# EAGLE library part CA723CA-PDIP (library Harris-Semi)
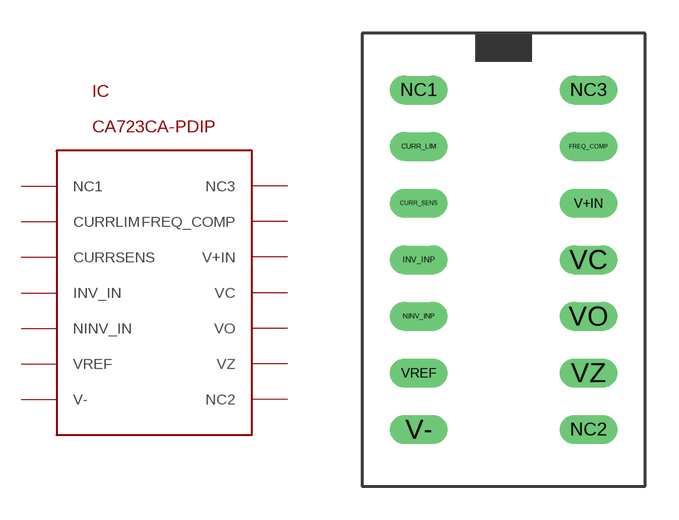
[diagram p0: symbol with the pads of PDIP-14; footprint PDIP-14]

Designator prefix IC

## CA723CA-PDIP  [PDIP-14]
CURR_LIM  CURRLIM
CURR_SENS  CURRSENS
FREQ_COMP  FREQ_COMP
INV_INP  INV_IN
NC1  NC1
NC2  NC2
NC3  NC3
NINV_INP  NINV_IN
V+IN  V+IN
V-  V-
VC  VC
VO  VO
VREF  VREF
VZ  VZ

## Footprint PDIP-14 (pad centres in mm)
drill 0.8 long: CURR_LIM -3.81,5.08; CURR_SENS -3.81,2.54; FREQ_COMP 3.81,5.08; INV_INP -3.81,0; NC1 -3.81,7.62; NC2 3.81,-7.62; NC3 3.81,7.62; NINV_INP -3.81,-2.54; V+IN 3.81,2.54; V- -3.81,-7.62; VC 3.81,0; VO 3.81,-2.54; VREF -3.81,-5.08; VZ 3.81,-5.08